# Altium footprint library GCMPCBLibrerias.PcbLib: 43 footprints (part 2 of 3)
Each footprint in its own frame and in the unit in brackets; x right, y up, seen from the top. Pads: shape width x height; smd on the part's side, far side on the other; paste and mask are expansions set on the pad; w line width, h text height; cw(c..) or ccw(c..) is an arc to the next point about the centre after c.
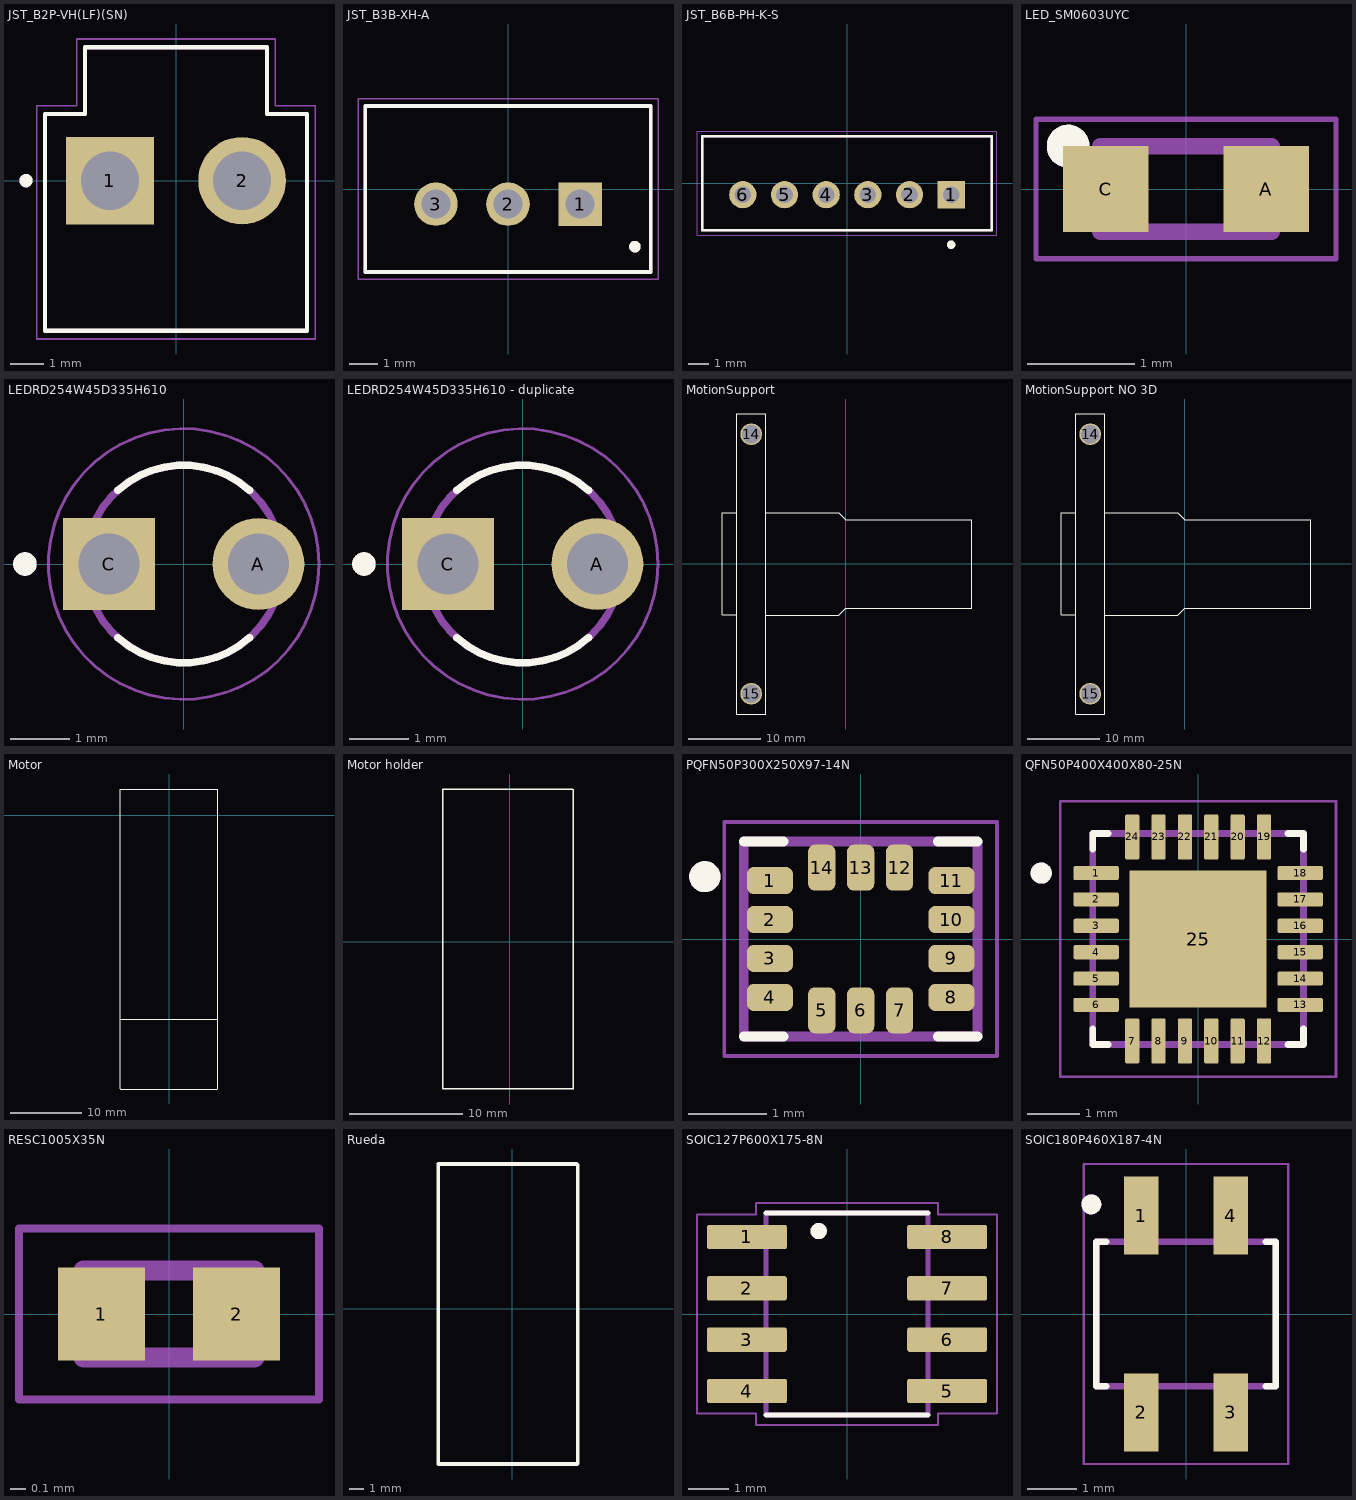
[diagram p1: the footprints below, top view; thin cyan lines are the x and y axes]

## JST_B2P-VH(LF)(SN) [mm]
height 10.9
pads (2):
  rect 2.625x2.625 / inner round 2.625 / far side rect 2.625x2.625 hole 1.75: 1(-1.98,0)
  round 2.625 hole 1.75: 2(1.98,0)
Top Overlay:
  circle w0.2: c-4.5,0 r0.1
  lines w0.127: -3.93,-4.5 3.93,-4.5 3.93,2 2.73,2 2.73,4 -2.73,4 -2.73,2 -3.93,2 -3.93,-4.5
Mechanical 13:
  circle w0.2: c-4.5,0 r0.1
  lines w0.127: -3.93,-4.5 3.93,-4.5 3.93,2 2.73,2 2.73,4 -2.73,4 -2.73,2 -3.93,2 -3.93,-4.5
Mechanical 15:
  lines w0.05: -4.18,-4.75 4.18,-4.75 4.18,2.25 2.98,2.25 2.98,4.25 -2.98,4.25 -2.98,2.25 -4.18,2.25 -4.18,-4.75
3D body "step_temp.STEP": height 10.9, standoff -3.7, extent -3.93,-4.5 3.93,4

## JST_B3B-XH-A [mm]
height 7
pads (3):
  rect 1.508x1.508 / inner round 1.508 / far side rect 1.508x1.508 hole 1 mask+0.102: 1(2.5,-0.525)
  round 1.508 hole 1 mask+0.102: 2(0,-0.525) 3(-2.5,-0.525)
Top Overlay:
  circle w0.2: c4.4,-2 r0.1
  lines w0.127: -4.95,-2.875 -4.95,2.875 4.95,2.875 4.95,-2.875 -4.95,-2.875
Mechanical 13:
  circle w0.2: c4.4,-2 r0.1
  lines w0.127: -4.95,-2.875 -4.95,2.875 4.95,2.875 4.95,-2.875 -4.95,-2.875
Mechanical 15:
  lines w0.05: -5.2,-3.125 -5.2,3.125 5.2,3.125 5.2,-3.125 -5.2,-3.125
3D body "step_temp.STEP": height 7, standoff -3.4, extent -4.95,-2.875 4.95,2.875

## JST_B6B-PH-K-S [mm]
pads (6):
  rect 1.308x1.308 / inner round 1.308 / far side rect 1.308x1.308 hole 0.8: 1(5,-0.55)
  round 1.308 hole 0.8: 2(3,-0.55) 3(1,-0.55) 4(-1,-0.55) 5(-3,-0.55) 6(-5,-0.55)
Top Overlay:
  circle w0.2: c5,-2.95 r0.1
  lines w0.127: -6.95,-2.25 -6.95,2.25 6.95,2.25 6.95,-2.25 -6.95,-2.25
Mechanical 13:
  circle w0.2: c5,-2.95 r0.1
  lines w0.127: -6.95,-2.25 6.95,-2.25 6.95,2.25 -6.95,2.25 -6.95,-2.25
Mechanical 15:
  lines w0.05: -7.2,-2.5 7.2,-2.5 7.2,2.5 -7.2,2.5 -7.2,-2.5
3D body "step_temp.STEP": height 6, standoff -3.4, extent -6.95,-2.25 6.95,2.25

## LED_SM0603UYC [mm]
height 0.6
pads (2):
  rect 0.8x0.8 smd: A(0.75,0) C(-0.75,0)
Top Overlay:
  circle w0.2: c-1.1,0.4 r0.1
Mechanical 13:
  circle w0.2: c-1.1,0.4 r0.1
  lines w0.152: -0.8,-0.4 0.8,-0.4 0.8,0.4 -0.8,0.4 -0.8,-0.4
Mechanical 15:
  lines w0.05: -1.4,-0.65 -1.4,0.65 1.4,0.65 1.4,-0.65 -1.4,-0.65
3D body "step_temp.STEP": height 0.6, standoff 0, extent -0.8,-0.4 0.8,0.4

## LEDRD254W45D335H610 [mm]
pads (2):
  round 1.56 hole 1.04: A(1.27,0)
  rect 1.56x1.56 hole 1.04: C(-1.27,0)
Top Overlay:
  circle w0.2: c-2.7,0 r0.1
  lines w0.127: -1.12,-1.25 ccw(c0,-0.006) 1.12,-1.25 ; -1.12,1.25 cw(c0,0.006) 1.12,1.25
Mechanical 13:
  circle w0.2: c-2.7,0 r0.1
  circle w0.127: c0,0 r1.68
Mechanical 15:
  circle w0.05: c0,0 r2.3
3D body "step_temp.STEP": height 6.1, standoff -28.8, extent -1.6,-1.95 1.6,1.95

## LEDRD254W45D335H610 - duplicate [mm]
pads (2):
  round 1.56 hole 1.04: A(1.27,0)
  rect 1.56x1.56 hole 1.04: C(-1.27,0)
Top Overlay:
  circle w0.2: c-2.7,0 r0.1
  lines w0.127: -1.12,-1.25 ccw(c0,-0.006) 1.12,-1.25 ; -1.12,1.25 cw(c0,0.006) 1.12,1.25
Mechanical 13:
  circle w0.2: c-2.7,0 r0.1
  circle w0.127: c0,0 r1.68
Mechanical 15:
  circle w0.05: c0,0 r2.3

## MotionSupport [mm]
pads (2):
  round 3 hole 2.5: 14(-13.1,17.95) 15(-13.1,-17.95)
Top Overlay:
  circle w0.127: c-13.1,-17.95 r1.25
  circle w0.127: c-13.1,17.95 r1.25
  lines w0.127: -15.1,-7.042 -17.1,-7.042 -17.1,7.1 -15.1,7.1 ; -15.1,20.714 -15.1,-20.75 ; -11.1,7.1 -1,7.1 0,6.1 17.4,6.1 17.4,-6.1 0,-6.1 -1,-7.1 -11.1,-7.1 -11.1,-20.75 ; -15.1,-20.75 -15.1,20.75 ; -15.1,-20.75 -11.1,-20.75 ; -15.1,-20.75 -11.1,-20.75 ; -15.1,20.75 -11.1,20.75 ; -15.1,20.75 -11.1,20.75 ; -11.1,-20.75 -11.1,20.75 ; -11.1,-20.75 -11.1,20.75
3D body "Assembly 1.step": height 17.81, standoff -4.17, extent -30.621,-24.234 17.859,24.266

## MotionSupport NO 3D [mm]
pads (2):
  round 3 hole 2.5: 14(-13.1,17.95) 15(-13.1,-17.95)
Top Overlay:
  circle w0.127: c-13.1,17.95 r1.25
  circle w0.127: c-13.1,-17.95 r1.25
  lines w0.127: -15.1,-7.042 -17.1,-7.042 -17.1,7.1 -15.1,7.1 ; -15.1,20.714 -15.1,-20.75 ; -11.1,7.1 -1,7.1 0,6.1 17.4,6.1 17.4,-6.1 0,-6.1 -1,-7.1 -11.1,-7.1 -11.1,-20.75 ; -15.1,-20.75 -11.1,-20.75 ; -15.1,-20.75 -11.1,-20.75 ; -15.1,-20.75 -15.1,20.75 ; -15.1,20.75 -11.1,20.75 ; -15.1,20.75 -11.1,20.75 ; -11.1,-20.75 -11.1,20.75 ; -11.1,-20.75 -11.1,20.75

## Motor [mm]
Top Overlay:
  lines w0.127: -6.731,-28.575 2.921,-28.575 6.71,-28.575 ; 6.768,-38.317 -6.779,-38.317 -6.8,-38.296 -6.8,3.683 6.731,3.683 6.797,3.617 6.797,-38.288
3D body "mmgm-cb-enc-side-con.step": height 14.2, standoff -0.3, extent -6.8,-38.317 6.8,3.683

## Motor holder [mm]
Top Overlay:
  lines w0.127: -5.932,-12.982 -5.932,13.507 5.55,13.507 ; -5.915,-12.999 5.588,-12.999 ; 5.592,-13.003 5.592,13.465
3D body "micro-metal-gearmotor-bracket.step": height 11.7, standoff 0, extent -5.912,-12.996 5.588,13.504

## PQFN50P300X250X97-14N [mm]
pads (14):
  rrect50% 0.59x0.35 smd mask+0: 1(-1.165,0.75) 2(-1.165,0.25) 3(-1.165,-0.25) 4(-1.165,-0.75) 8(1.165,-0.75) 9(1.165,-0.25) 10(1.165,0.25) 11(1.165,0.75)
  rrect50% 0.35x0.59 smd mask+0: 5(-0.5,-0.915) 6(0,-0.915) 7(0.5,-0.915) 12(0.5,0.915) 13(0,0.915) 14(-0.5,0.915)
Top Overlay:
  circle w0.2: c-2,0.8 r0.1
  lines w0.127: -1.5,-1.25 -0.99,-1.25 ; -1.5,1.25 -0.99,1.25 ; 0.99,-1.25 1.5,-1.25 ; 0.99,1.25 1.5,1.25
Top Solder:
  drawing of 14 lines, arcs and shapes, not listed
Mechanical 13:
  circle w0.2: c-2,0.8 r0.1
  lines w0.127: -1.5,-1.25 1.5,-1.25 1.5,1.25 -1.5,1.25 -1.5,-1.25
Mechanical 15:
  lines w0.05: -1.75,-1.5 1.75,-1.5 1.75,1.5 -1.75,1.5 -1.75,-1.5
3D body "ICM-42688-P--3DModel-STEP-1.STEP": height 0.97, standoff 0, extent -1.5,-1.27 1.5,1.23

## QFN50P400X400X80-25N [mm]
pads (25):
  rrect25% 0.86x0.27 smd: 1(-1.935,1.25) 2(-1.935,0.75) 3(-1.935,0.25) 4(-1.935,-0.25) 5(-1.935,-0.75) 6(-1.935,-1.25) 13(1.935,-1.25) 14(1.935,-0.75) 15(1.935,-0.25) 16(1.935,0.25) 17(1.935,0.75) 18(1.935,1.25)
  rrect25% 0.27x0.86 smd: 7(-1.25,-1.935) 8(-0.75,-1.935) 9(-0.25,-1.935) 10(0.25,-1.935) 11(0.75,-1.935) 12(1.25,-1.935) 19(1.25,1.935) 20(0.75,1.935) 21(0.25,1.935) 22(-0.25,1.935) 23(-0.75,1.935) 24(-1.25,1.935)
  rect 2.6x2.6 smd paste-2: 25(0,0)
Top Overlay:
  circle w0.2: c-2.975,1.25 r0.1
  lines w0.127: -2,-1.705 -2,-2 -1.705,-2 ; -2,1.705 -2,2 -1.705,2 ; 1.705,-2 2,-2 2,-1.705 ; 1.705,2 2,2 2,1.705
Top Paste:
  region: 0.82,-0.82 -0.82,-0.82 -0.82,0.82 0.82,0.82
Mechanical 13:
  circle w0.2: c-2.975,1.25 r0.1
  lines w0.127: -2,-2 2,-2 2,2 -2,2 -2,-2
Mechanical 15:
  lines w0.05: -2.615,-2.615 2.615,-2.615 2.615,2.615 -2.615,2.615 -2.615,-2.615
3D body "TCA9555RTWR.STEP": height 0.8, standoff 0, extent -2,-2 2,2

## RESC1005X35N [mm]
pads (2):
  rect 0.56x0.6 smd paste+0 mask+0.102: 1(-0.435,0) 2(0.435,0)
Mechanical 13:
  lines w0.127: -0.55,-0.28 0.55,-0.28 0.55,0.28 -0.55,0.28 -0.55,-0.28
Mechanical 15:
  lines w0.05: -0.965,-0.55 0.965,-0.55 0.965,0.55 -0.965,0.55 -0.965,-0.55
3D body "step_temp.STEP": height 0.35, standoff 0, extent -0.5,-0.25 0.5,0.25

## Rueda [mm]
Top Overlay:
  lines w0.254: -5.075,-10.6 -5.05,-10.625 4.45,-10.625 4.5,-10.575 4.5,9.825 4.4,9.925 -5.075,9.925 -5.075,-10.6
3D body "EngranajeRuedaV2.stp": height 21.25, standoff 3.75, extent 4.5,-8.938 7.5,8.538
3D body "RimV1.stp": height 23.1, standoff 2.6, extent -5.05,-10.575 4.45,9.925

## SOIC127P600X175-8N [mm]
pads (8):
  rrect15% 1.97x0.6 smd: 1(-2.475,1.905) 2(-2.475,0.635) 3(-2.475,-0.635) 4(-2.475,-1.905) 5(2.475,-1.905) 6(2.475,-0.635) 7(2.475,0.635) 8(2.475,1.905)
Top Overlay:
  circle w0.2: c-0.7,2.05 r0.1
  lines w0.127: -2,-2.5 2,-2.5 ; -2,2.5 2,2.5
Mechanical 13:
  circle w0.2: c-0.7,2.05 r0.1
  lines w0.127: -2,-2.5 2,-2.5 2,2.5 -2,2.5 -2,-2.5
Mechanical 15:
  lines w0.05: -3.71,-2.46 -3.71,2.46 -2.25,2.46 -2.25,2.75 2.25,2.75 2.25,2.46 3.71,2.46 3.71,-2.46 2.25,-2.46 2.25,-2.75 -2.25,-2.75 -2.25,-2.46 -3.71,-2.46
3D body "step_temp.STEP": height 1.75, standoff 0, extent -3,-2.45 3,2.45

## SOIC180P460X187-4N [mm]
pads (4):
  rect 0.69x1.57 smd: 1(-0.9,1.975) 2(-0.9,-1.975) 3(0.9,-1.975) 4(0.9,1.975)
Top Overlay:
  circle w0.2: c-1.9,2.2 r0.1
  lines w0.127: -1.6,-1.45 -1.8,-1.45 -1.8,1.45 -1.6,1.45 ; 1.6,-1.45 1.8,-1.45 1.8,1.45 1.6,1.45
Mechanical 13:
  circle w0.2: c-1.9,2.2 r0.1
  lines w0.127: -1.8,-1.45 -1.8,1.45 1.8,1.45 1.8,-1.45 -1.8,-1.45
Mechanical 15:
  lines w0.05: -2.05,-3.01 -2.05,3.01 2.05,3.01 2.05,-3.01 -2.05,-3.01
3D body "step_temp.STEP": height 1.87, standoff 0, extent -1.7,-2.3 1.7,2.3